# EAGLE library part CONTROLLER_SOCKET (library eq_Control_Board)
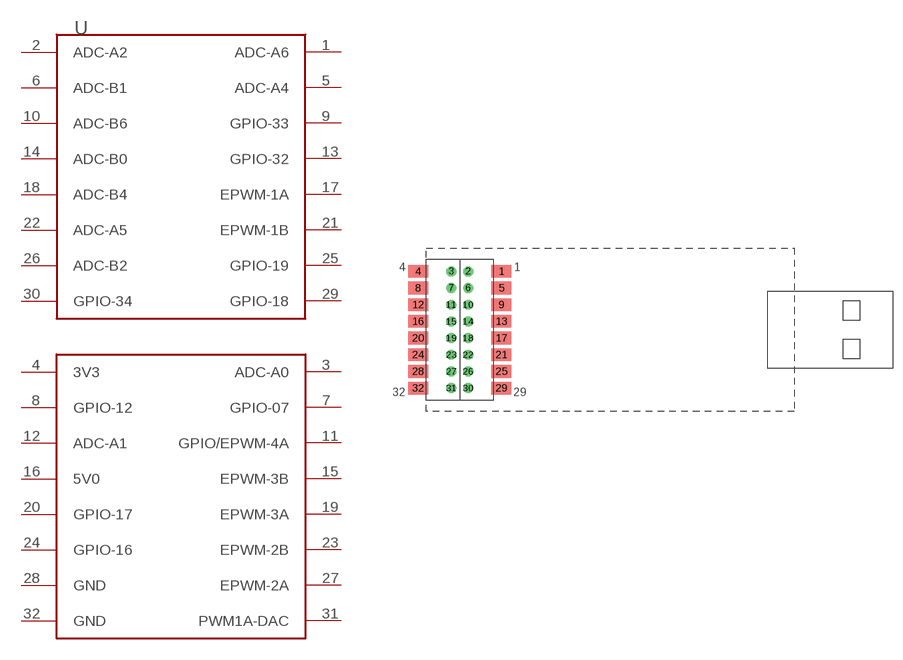
[diagram p0: symbol with the pads of CONTROLLER_SOCKET; footprint CONTROLLER_SOCKET]

Designator prefix -

## CONTROLLER_SOCKET  [CONTROLLER_SOCKET]
1  ADC-A6
2  ADC-A2
3  ADC-A0
4  3V3
5  ADC-A4
6  ADC-B1
7  GPIO-07
8  GPIO-12
9  GPIO-33
10  ADC-B6
11  GPIO/EPWM-4A
12  ADC-A1
13  GPIO-32
14  ADC-B0
15  EPWM-3B
16  5V0
17  EPWM-1A
18  ADC-B4
19  EPWM-3A
20  GPIO-17
21  EPWM-1B
22  ADC-A5
23  EPWM-2B
24  GPIO-16
25  GPIO-19
26  ADC-B2
27  EPWM-2A
28  GND
29  GPIO-18
30  GPIO-34
31  PWM1A-DAC
32  GND

## Footprint CONTROLLER_SOCKET (pad centres in mm)
smd 3.048 x 1.93: 1 6.35,8.89; 4 -6.35,8.89; 5 6.35,6.35; 8 -6.35,6.35; 9 6.35,3.81; 12 -6.35,3.81; 13 6.35,1.27; 16 -6.35,1.27; 17 6.35,-1.27; 20 -6.35,-1.27; 21 6.35,-3.81; 24 -6.35,-3.81; 25 6.35,-6.35; 28 -6.35,-6.35; 29 6.35,-8.89; 32 -6.35,-8.89
drill 1: 2 1.27,8.89; 3 -1.27,8.89; 6 1.27,6.35; 7 -1.27,6.35; 10 1.27,3.81; 11 -1.27,3.81; 14 1.27,1.27; 15 -1.27,1.27; 18 1.27,-1.27; 19 -1.27,-1.27; 22 1.27,-3.81; 23 -1.27,-3.81; 26 1.27,-6.35; 27 -1.27,-6.35; 30 1.27,-8.89; 31 -1.27,-8.89